# Altium schematic symbol library 219-2MSTR.SchLib: 1 symbol
Pins are listed as number, name and electrical type; pins without a type are passive.

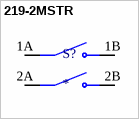
[diagram p0: symbol 219-2MSTR]

## 219-2MSTR
designator S?
Dip Switch SPST 2 Position Surface Mount Slide (Standard) Actuator 100mA 20VDC; MF: CTS Electrocomponents; MP: 219-2MSTR; SnapEDA_Link: https://www.snapeda.com/parts/219-2MSTR/CTS+Components/view-part/?ref=snap; Package: None; Value: *; Check_prices: https://www.snapeda.com/parts/219-2MSTR/CTS+Components/view-part/?ref=eda
footprint SW_219-2MSTR
pins: 1A COM1, 1B NO1, 2A COM2, 2B NO2